# EAGLE library part PIC_IC (library PIC_IC)
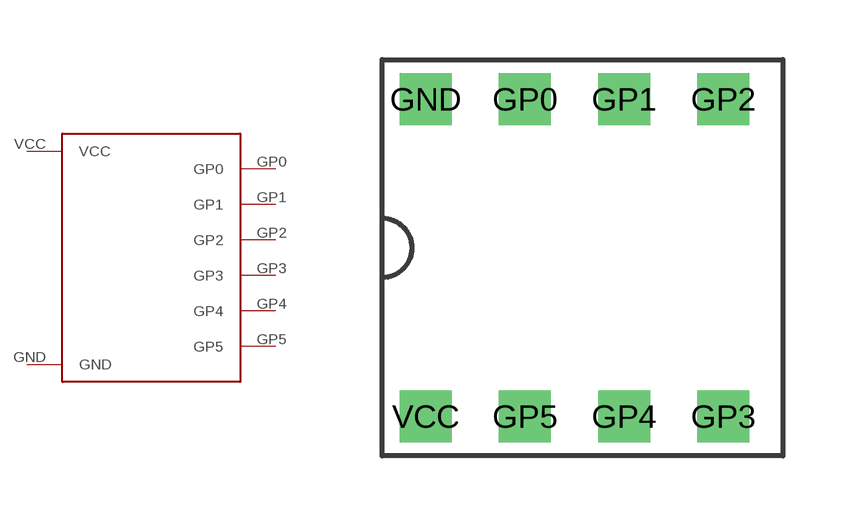
[diagram p0: symbol with the pads of PIC_IC; footprint PIC_IC]

Designator prefix -

## PIC_IC  [PIC_IC]
GND  GND  pwr
GP0  GP0
GP1  GP1
GP2  GP2
GP3  GP3
GP4  GP4
GP5  GP5
VCC  VCC  pwr

## Footprint PIC_IC (pad centres in mm)
drill 0.8 square: GND -4,4; GP0 -1.5,4; GP1 1,4; GP2 3.5,4; GP3 3.5,-4; GP4 1,-4; GP5 -1.5,-4; VCC -4,-4